# EAGLE library part POCKETBEAGLE (library Plant Reminder)
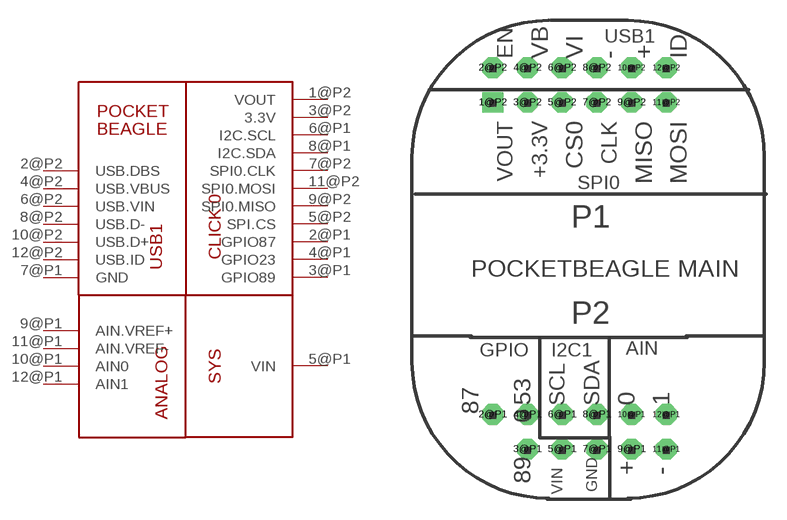
[diagram p3: symbol with the pads of POCKETBEAGLE; footprint POCKETBEAGLE]

Designator prefix U

## POCKETBEAGLE  [POCKETBEAGLE]
1@P2  VOUT
2@P1  GPIO87
2@P2  USB.DBS
3@P1  GPIO89
3@P2  3.3V
4@P1  GPIO23
4@P2  USB.VBUS
5@P1  VIN
5@P2  SPI.CS
6@P1  I2C.SCL
6@P2  USB.VIN
7@P1  GND
7@P2  SPI0.CLK
8@P1  I2C.SDA
8@P2  USB.D-
9@P1  AIN.VREF+
9@P2  SPI0.MISO
10@P1  AIN0
10@P2  USB.D+
11@P1  AIN.VREF-
11@P2  SPI0.MOSI
12@P1  AIN1
12@P2  USB.ID

## Footprint POCKETBEAGLE (pad centres in mm)
Package generated by make-group2pac.ulp from: /Users/fernandalago/Downloads/pocketbeagle/EAGLE/PocketBeagle.brd at: 12/12/20 8:51 PM
drill 0.889 pad 1.524 square: 1@P2 5.91,29.565
drill 0.889 pad 1.524 octagon: 2@P1 5.91,6.705; 2@P2 5.91,32.105; 3@P1 8.45,4.165; 3@P2 8.45,29.565; 4@P1 8.45,6.705; 4@P2 8.45,32.105; 5@P1 10.99,4.165; 5@P2 10.99,29.565; 6@P1 10.99,6.705; 6@P2 10.99,32.105; 7@P1 13.53,4.165; 7@P2 13.53,29.565; 8@P1 13.53,6.705; 8@P2 13.53,32.105; 9@P1 16.07,4.165; 9@P2 16.07,29.565; 10@P1 16.07,6.705; 10@P2 16.07,32.105; 11@P1 18.61,4.165; 11@P2 18.61,29.565; 12@P1 18.61,6.705; 12@P2 18.61,32.105